# EAGLE library part REF3450IDBVR (library Spannungsreferenzen)
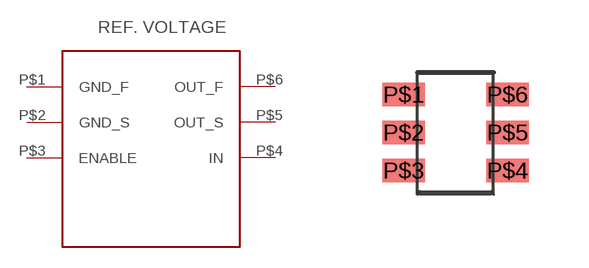
[diagram p0: symbol with the pads of UZUN; footprint UZUN]

Designator prefix -

## REF3450IDBVR  [UZUN]
P$1  GND_F
P$2  GND_S
P$3  ENABLE
P$4  IN
P$5  OUT_S
P$6  OUT_F

## Footprint UZUN (pad centres in mm)
smd 1.1 x 0.6: P$1 0,0; P$2 0,-0.95; P$3 0,-1.9; P$4 2.6,-1.9; P$5 2.6,-0.95; P$6 2.6,0